# Altium footprint library LW4.PcbLib: 40 footprints (part 2 of 3)
Each footprint in its own frame and in the unit in brackets; x right, y up, seen from the top. Pads: shape width x height; smd on the part's side, far side on the other; paste and mask are expansions set on the pad; w line width, h text height; cw(c..) or ccw(c..) is an arc to the next point about the centre after c.
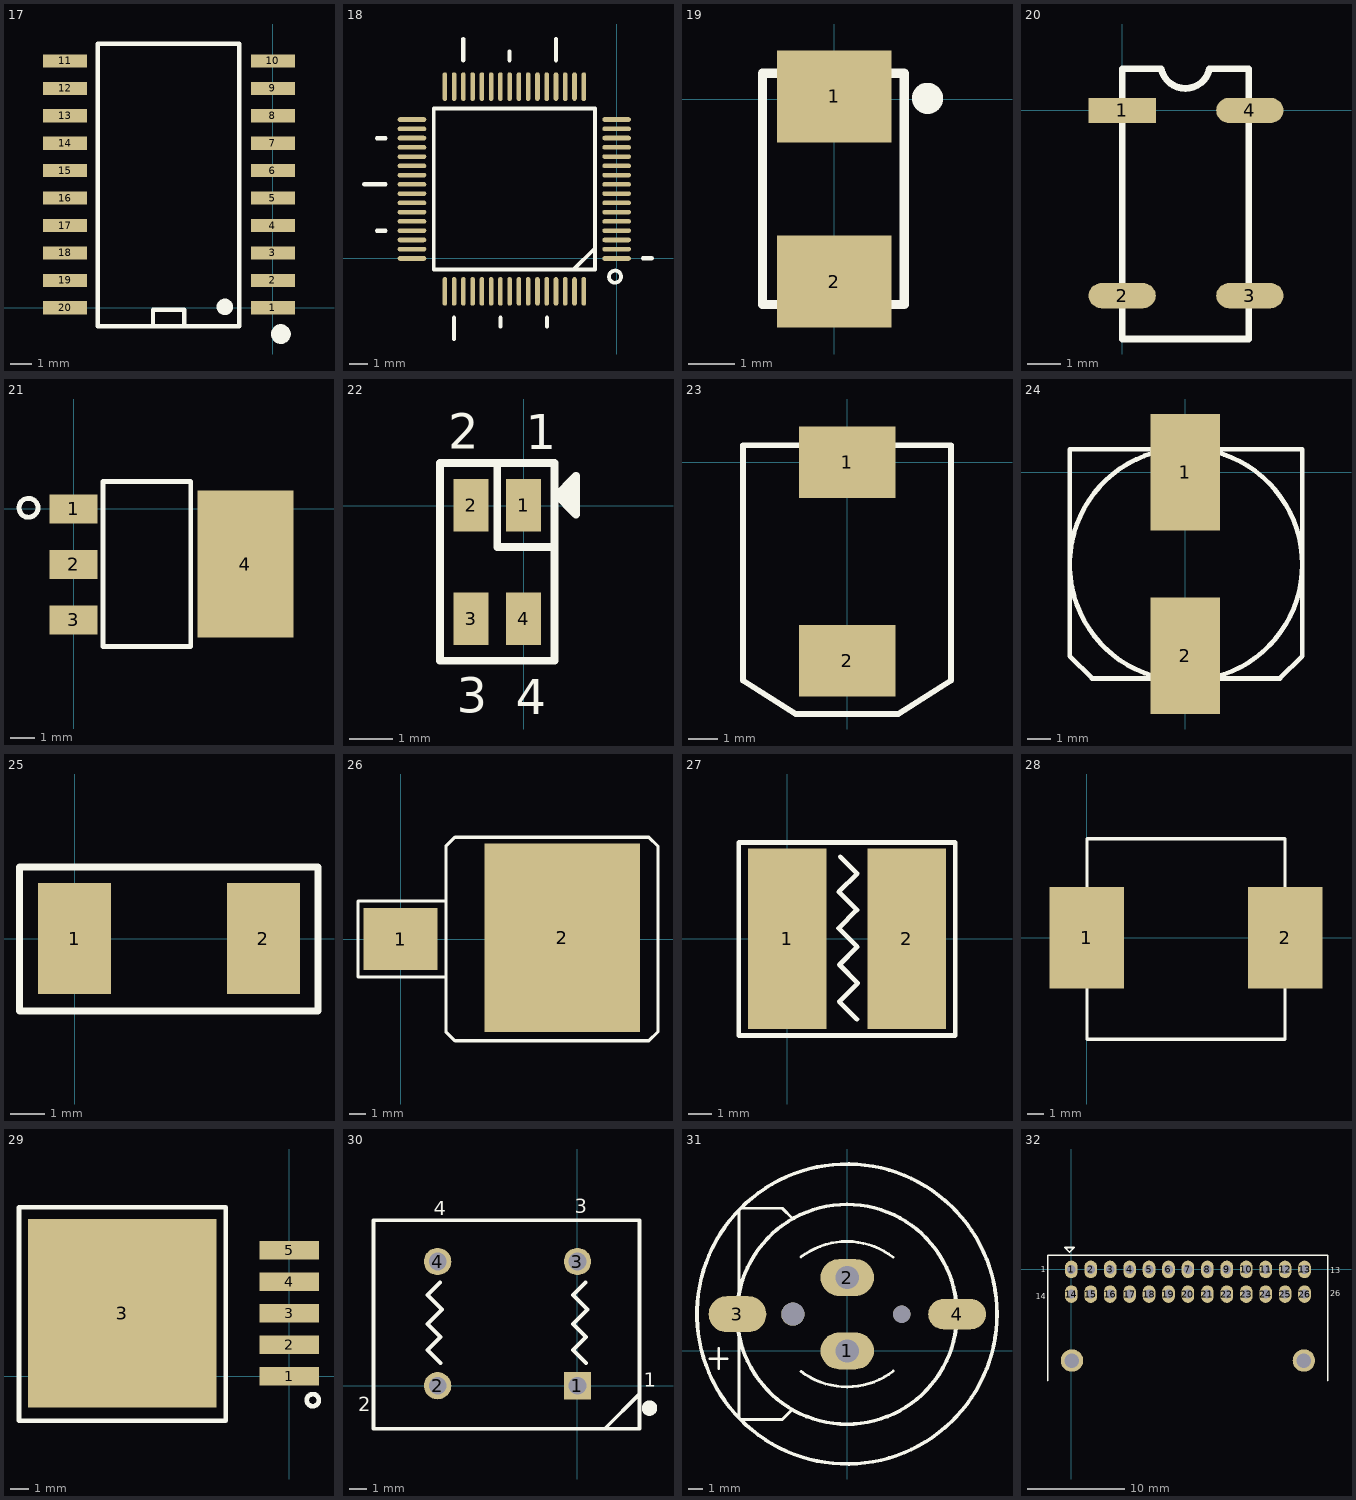
[diagram p1: the footprints below, top view; thin cyan lines are the x and y axes]

## 17 [mil]
pads (20):
  rect 80x24 smd: 1(0,0) 2(0,50) 3(0,100) 4(0,150) 5(0,200) 6(0,250) 7(0,300) 8(0,350) 9(0,400) 10(0,450) 11(-378.79,450) 12(-378.79,400) 13(-378.8,350) 14(-378.8,300) 15(-378.8,250) 16(-378.8,200) 17(-378.79,150) 18(-378.8,100) 19(-378.79,50) 20(-378.8,0)
Top Overlay:
  circle w18: c14.54,-47.86 r9
  circle w18: c-87.58,1.74 r6
  lines w8: -218.59,-33.69 -218.59,-3.37 -161.5,-3.37 -161.5,-33.69 ; -318.98,-33.69 -318.98,481.67 -61.11,481.67 -61.11,-33.69 -318.98,-33.69

## 18 [mm]
pads (64):
  oval 1.55x0.25 smd: 1(0,0) 2(0,0.5) 3(0,1) 4(0,1.5) 5(0,2) 6(0,2.5) 7(0,3) 8(0,3.5) 9(0,4) 10(0,4.5) 11(0,5) 12(0,5.5) 13(0,6) 14(0,6.5) 15(0,7) 16(0,7.5) 33(-11.05,7.5) 34(-11.05,7) 35(-11.05,6.5) 36(-11.05,6) 37(-11.05,5.5) 38(-11.05,5) 39(-11.05,4.5) 40(-11.05,4) 41(-11.05,3.5) 42(-11.05,3) 43(-11.05,2.5) 44(-11.05,2) 45(-11.05,1.5) 46(-11.05,1) 47(-11.05,0.5) 48(-11.05,0)
  oval 0.25x1.55 smd: 17(-1.775,9.275) 18(-2.275,9.275) 19(-2.775,9.275) 20(-3.275,9.275) 21(-3.775,9.275) 22(-4.275,9.275) 23(-4.775,9.275) 24(-5.275,9.275) 25(-5.775,9.275) 26(-6.275,9.275) 27(-6.775,9.275) 28(-7.275,9.275) 29(-7.775,9.275) 30(-8.275,9.275) 31(-8.775,9.275) 32(-9.275,9.275) 49(-9.275,-1.775) 50(-8.775,-1.775) 51(-8.275,-1.775) 52(-7.775,-1.775) 53(-7.275,-1.775) 54(-6.775,-1.775) 55(-6.275,-1.775) 56(-5.775,-1.775) 57(-5.275,-1.775) 58(-4.775,-1.775) 59(-4.275,-1.775) 60(-3.775,-1.775) 61(-3.275,-1.775) 62(-2.775,-1.775) 63(-2.275,-1.775) 64(-1.775,-1.775)
Top Overlay:
  circle w0.203: c-0.085,-0.982 r0.326
  lines w0.203: -2.323,-0.6 -1.175,0.548 ; -9.875,-0.6 -1.175,-0.6 -1.175,8.1 -9.875,8.1 -9.875,-0.6
  lines w0.229: -13.623,4 -12.473,4 ; -12.943,1.49 -12.473,1.49 ; -12.943,6.49 -12.473,6.49 ; -8.775,-4.348 -8.775,-3.198 ; -8.275,10.698 -8.275,11.848 ; -6.265,-3.668 -6.265,-3.198 ; -5.785,10.698 -5.785,11.168 ; -3.765,-3.668 -3.765,-3.198 ; -3.275,10.698 -3.275,11.848 ; 1.423,0.01 1.893,0.01

## 19 [mm]
pads (2):
  rect 2.5x2 smd: 1(0,0.064) 2(0,-3.973)
Top Overlay:
  circle w0.508: c2.035,0.02 r0.085
  lines w0.203: -1.56,-4.47 -1.56,0.57 1.53,0.57 1.53,-4.47 -1.56,-4.47

## 20 [mm]
pads (4):
  rect 2x0.75 smd: 1(0,0)
  oval 2x0.75 smd: 2(0,-5.52) 3(3.8,-5.52) 4(3.8,0)
Top Overlay:
  lines w0.203: 2.6,1.242 cw(c1.88,1.39) 1.16,1.24 0,1.24 0,-6.81 3.77,-6.81 3.77,1.24 2.61,1.24

## 21 [mm]
pads (4):
  rect 2x1.2 smd: 1(0,0) 2(0,-2.3) 3(0,-4.6)
  rect 4x6.1 smd: 4(7.13,-2.29)
Top Overlay:
  circle w0.203: c-1.873,0.05 r0.393
  lines w0.203: 1.221,-5.698 1.221,1.132 4.861,1.132 4.861,-5.698 1.221,-5.698

## 22 [mm]
pads (4):
  rect 0.8x1.2 smd: 1(0,0.013) 2(-1.2,0.013) 3(-1.2,-2.583) 4(0,-2.583)
Top Overlay:
  lines w0.178: -0.6,0.97 -0.6,-0.94 0.67,-0.94 ; 0.71,0.2 1.2,0.69 1.2,-0.2 0.71,0.29 ; 0.87,0.21 1.18,0.21 ; 0.95,0.17 0.95,0.32 ; 1.08,0.03 1.08,0.45 ; -1.91,-3.54 -1.91,0.98 0.71,0.98 0.71,-3.54 -1.91,-3.54
  text "4" at -0.18,-4.76 h0.8
  text "3" at -1.53,-4.73 h0.8
  text "2" at -1.72,1.3 h0.8
  text "1" at 0.05,1.29 h0.8

## 23 [mm]
pads (2):
  rect 3.3x2.45 smd: 1(0,0) 2(0,-6.81)
Top Overlay:
  lines w0.203: -3.57,-7.48 -1.76,-8.63 1.75,-8.63 3.56,-7.48 3.56,0.58 -3.57,0.58 -3.57,-7.48

## 24 [mm]
pads (2):
  rect 3x5 smd: 1(0,0) 2(0,-7.9)
Top Overlay:
  circle w0.203: c0.03,-3.97 r5
  lines w0.203: -4.97,-7.91 -4.97,0.99 5.03,0.99 5.03,-7.91 4.07,-8.87 -4.01,-8.87 -4.97,-7.91

## 25 [mm]
pads (2):
  rect 2.1x3.2 smd: 1(0,0) 2(5.44,0)
Top Overlay:
  lines w0.203: -1.59,-2.08 -1.59,2.06 7.01,2.06 7.01,-2.08 -1.59,-2.08

## 26 [mm]
pads (2):
  rect 4.5x3.8 smd: 1(0,0)
  rect 9.5x11.5 smd: 2(9.86,0.08)
Top Overlay:
  lines w0.203: 2.77,-2.32 -2.6,-2.32 -2.6,2.32 2.77,2.32 ; 2.77,-5.66 2.77,5.66 3.32,6.21 15.17,6.21 15.72,5.66 15.72,-5.66 15.17,-6.21 3.32,-6.21 2.77,-5.66

## 27 [mm]
pads (2):
  rect 3.3x7.6 smd: 1(0,0) 2(5.03,0)
Top Overlay:
  lines w0.203: 2.23,3.46 2.94,2.75 2.17,1.98 2.93,1.22 2.16,0.45 2.95,-0.34 2.2,-1.09 2.97,-1.86 2.19,-2.64 2.93,-3.38 ; -2.04,-4.07 -2.04,4.06 7.07,4.06 7.07,-4.07 -2.04,-4.07

## 28 [mm]
pads (2):
  rect 4.5x6.1 smd: 1(0,0) 2(11.96,0)
Top Overlay:
  lines w0.203: 0.02,-6.1 11.94,-6.1 11.94,5.96 0.02,5.96 0.02,-6.1

## 29 [mm]
pads (6):
  rect 3.2x1 smd: 1(0,0) 2(0,1.7) 3(0,3.4) 4(0,5.1) 5(0,6.8)
  rect 10.16x10.16 smd: 3(-9,3.4)
Top Overlay:
  circle w0.254: c1.264,-1.282 r0.326
  lines w0.254: -14.566,-2.382 -14.566,9.108 -3.426,9.108 -3.426,-2.382 -14.566,-2.382

## 30 [mm]
pads (4):
  rect 1.55x1.55 hole 1: 1(0,0)
  round 1.55 hole 1: 2(-7.928,0) 3(0,7.037) 4(-7.928,7.037)
Top Overlay:
  circle w0.508: c4.083,-1.271 r0.183
  lines w0.203: 1.541,-2.442 3.513,-0.47 ; -11.559,-2.442 3.513,-2.442 3.513,9.367 -11.559,9.367 -11.559,-2.442
  lines w0.229: -7.786,5.854 -8.506,5.134 -7.686,4.313 -8.506,3.493 -7.776,2.762 -8.506,2.032 -7.766,1.291 ; 0.46,5.854 -0.26,5.134 0.56,4.313 -0.26,3.493 0.47,2.762 -0.26,2.032 0.48,1.291
  text "1" at 3.763,-0.05 h0.8
  text "2" at -12.439,-1.441 h0.8
  text "3" at -0.15,9.767 h0.8
  text "4" at -8.136,9.657 h0.8

## 31 [mm]
pads (6):
  oval 3.7x2.55 hole 1.6: 1(0,0) 2(0,5.08)
  oval 4x2.5 smd: 3(-7.608,2.54)
  oval 4x2.1 smd: 4(7.608,2.54)
  round 1.6 hole 1.6: ""(-3.774,2.54)
  round 1.2 hole 1.2: ""(3.774,2.54)
Top Overlay:
  circle w0.254: c-0.02,2.553 r10.391
  circle w0.254: c-0.02,2.533 r7.613
  lines w0.178: -9.515,-0.55 -8.324,-0.55 ; -8.914,-1.25 -8.914,0.161
  lines w0.203: -7.493,-4.603 -7.493,9.728 ; -7.377,-4.755 -4.505,-4.755 -3.794,-4.044 ; -7.377,9.88 -4.505,9.88 -3.794,9.169 ; -3.193,-1.427 ccw(c-0.02,2.738) 3.184,-1.403 ; -3.193,6.507 cw(c-0.02,2.342) 3.184,6.483

## 32 [mm]
pads (28):
  oval 1.3x1.8 hole 0.9: 1(0,0) 2(2,0) 3(4,0) 4(6,0) 5(8,0) 6(10,0) 7(12,0) 8(14,0) 9(16,0) 10(18,0) 11(20,0) 12(22,0) 13(24,0) 14(0,-2.54) 15(2,-2.54) 16(4,-2.54) 17(6,-2.54) 18(8,-2.54) 19(10,-2.54) 20(12,-2.54) 21(14,-2.54) 22(16,-2.54) 23(18,-2.54) 24(20,-2.54) 25(22,-2.54) 26(24,-2.54)
  round 2.3 hole 1.5: ""(0.066,-9.379) ""(23.934,-9.379)
Top Overlay:
  lines w0.178: -2.432,-11.441 -2.432,1.461 26.386,1.461 26.386,-11.441 ; -0.661,2.262 -0.18,1.782 0.3,2.262 -0.661,2.262
  text "1" at -3.143,-0.31 h0.6
  text "14" at -3.634,-3.063 h0.6
  text "13" at 26.637,-0.38 h0.6
  text "26" at 26.637,-2.763 h0.6